# Altium footprint library Library.PcbLib: 22 footprints (part 1 of 2)
Each footprint in its own frame and in the unit in brackets; x right, y up, seen from the top. Pads: shape width x height; smd on the part's side, far side on the other; paste and mask are expansions set on the pad; w line width, h text height; cw(c..) or ccw(c..) is an arc to the next point about the centre after c.
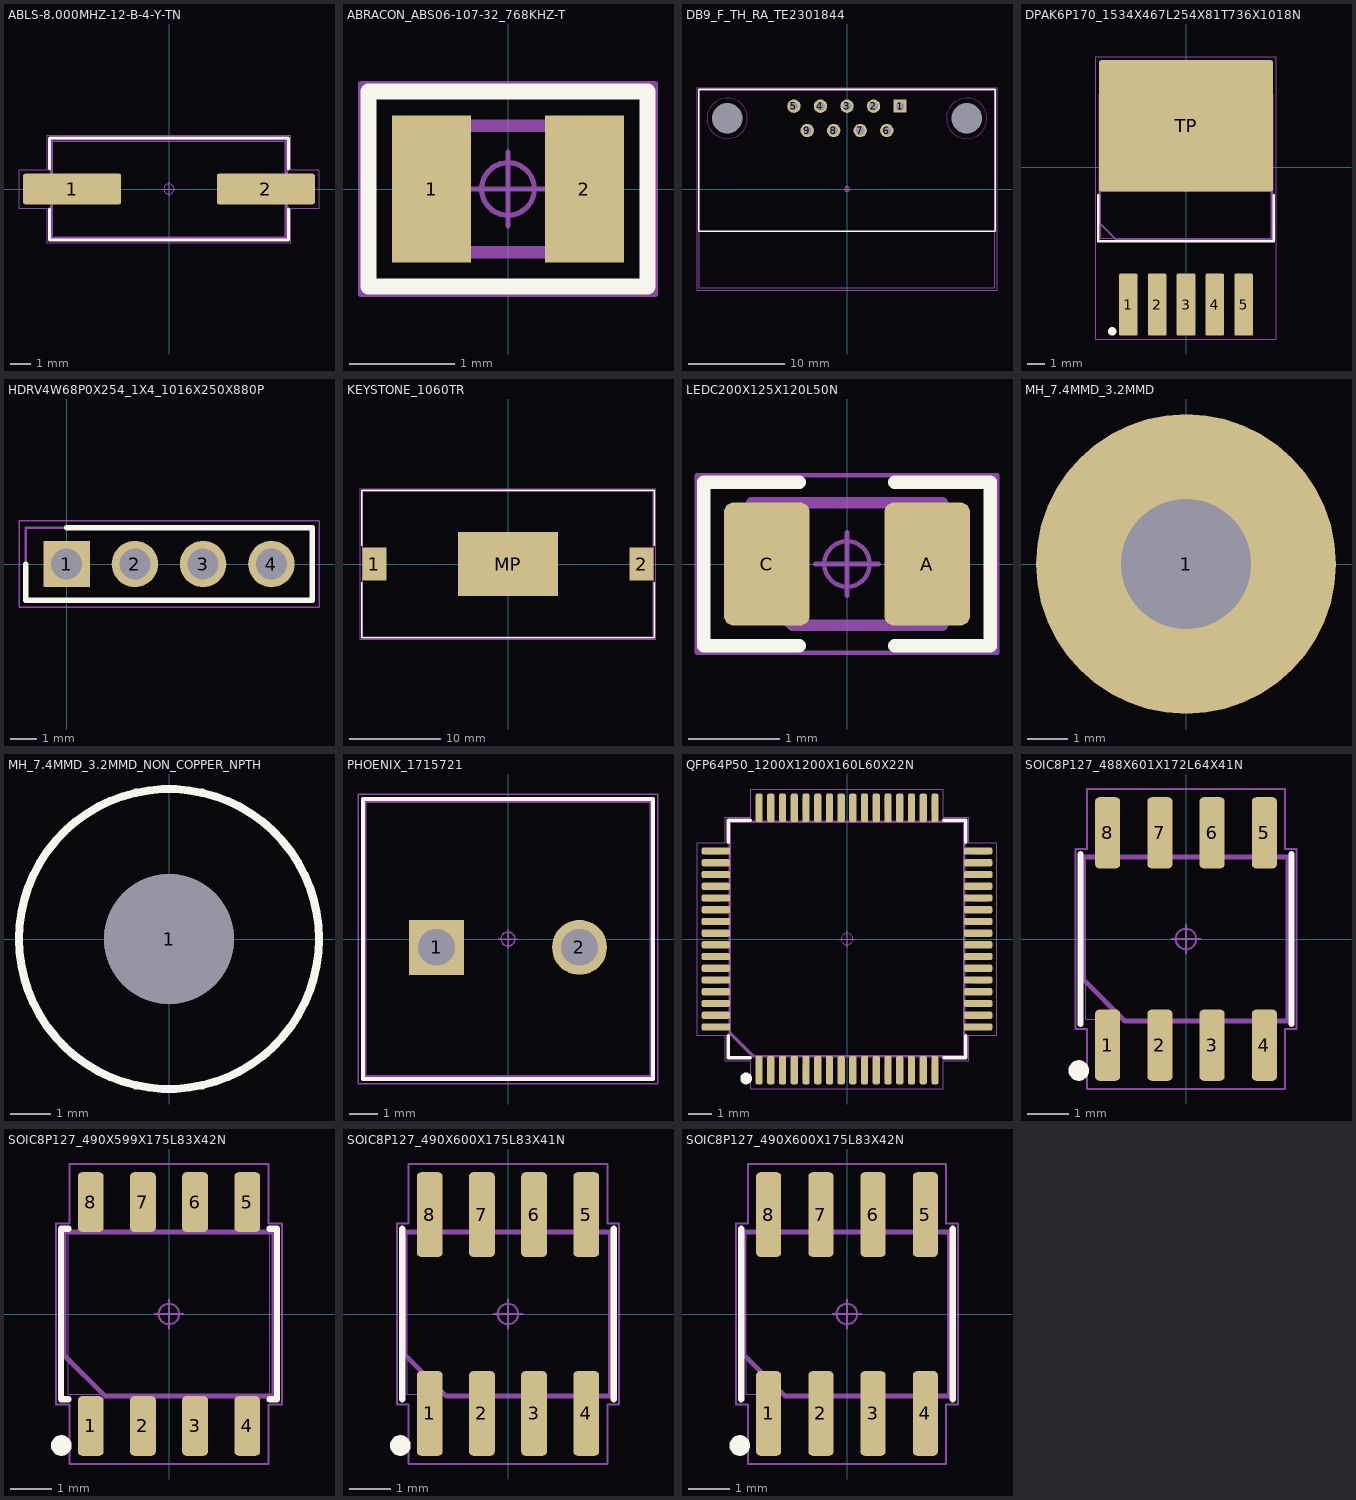
[diagram p0: the footprints below, top view; thin cyan lines are the x and y axes]

## ABLS-8.000MHZ-12-B-4-Y-TN [mm] "SMD Crystal; 11.40 mm L X 4.70 mm W X 4.30 mm H body"
height 4.3
pads (2):
  rrect13% 4.81x1.5 smd: 1(-4.745,0) 2(4.745,0)
Top Overlay:
  lines w0.15: -5.85,-0.975 -5.85,-2.5 5.85,-2.5 5.85,-0.975 ; -5.85,0.975 -5.85,2.5 5.85,2.5 5.85,0.975
Mechanical 9:
  lines w0.12: -5.775,-2.425 5.775,-2.425 5.775,2.425 -5.775,2.425 -5.775,-2.425
  text ".Designator" at -4.511,-0.453 h2
Mechanical 11:
  text ".Designator" at -2.704,-0.271 h1.2
Mechanical 15:
  lines w0.05: -7.35,-0.95 -5.975,-0.95 -5.975,-2.625 5.975,-2.625 5.975,-0.95 7.35,-0.95 7.35,0.95 5.975,0.95 5.975,2.625 -5.975,2.625 -5.975,0.95 -7.35,0.95 -7.35,-0.95
Mechanical 17:
  circle w0.05: c0,0 r0.25
  lines w0.05: -0.35,0 0.35,0 ; 0,-0.35 0,0.35
Mechanical 21:
  lines w0.025: -6.35,-0.3 -6.35,0.3 -2.45,0.3 -2.45,-0.3 -6.35,-0.3 ; -5.7,-2.35 5.7,-2.35 5.7,2.35 -5.7,2.35 -5.7,-2.35 ; 2.45,-0.3 6.35,-0.3 6.35,0.3 2.45,0.3 2.45,-0.3
3D body "ABLS-8.000MHz-12-B-4-Y-T.STEP": height 4.21, standoff 0.01, extent -6.35,-2.35 6.35,2.35

## ABRACON_ABS06-107-32_768KHZ-T [mm] "Crystals; 2 pin, 2.00 mm L X 1.20 mm W X 0.60 mm H body"
height 0.6
pads (2):
  rect 0.75x1.4 smd: 1(-0.725,0) 2(0.725,0)
Top Overlay:
  lines w0.15: -1.325,-0.925 -1.325,0.925 1.325,0.925 1.325,-0.925 -1.325,-0.925
Mechanical 9:
  lines w0.12: -1,-0.6 -1,0.6 1,0.6 1,-0.6 -1,-0.6
  text ".Designator" at -1.621,-0.163 h0.72
Mechanical 11:
  text ".Designator" at -2.704,-0.271 h1.2
Mechanical 15:
  lines w0.05: -1.4,-1 1.4,-1 1.4,1 -1.4,1 -1.4,-1
Mechanical 17:
  circle w0.05: c0,0 r0.25
  lines w0.05: -0.35,0 0.35,0 ; 0,-0.35 0,0.35
Mechanical 21:
  lines w0.025: -1,-0.6 -1,0.6 1,0.6 1,-0.6 -1,-0.6
3D body "ABS06-107-32.768KHZ-T.STEP": height 0.61, standoff 0.01, extent -1,-0.6 1,0.6

## DB9_F_TH_RA_TE2301844 [mm] "Connectors, Interconnects / D-Sub, D-Shaped Connectors / D-Sub Connector / TE Connectivity 2301844-1; 9 pin, 30.81 mm L X 20.65 mm W X 13.575 mm H body; 9 pin, 30.81 mm L X 20.65 mm W X 13.575 mm H body"
height 13.575
pads (11):
  rect 1.35x1.35 / inner round 1.35 / far side rect 1.35x1.35 hole 0.9 paste-2539.97: 1(5.54,8.645)
  round 1.4 hole 0.9 paste-2539.97: 2(2.77,8.645) 3(0,8.645) 4(-2.77,8.645) 5(-5.54,8.645) 6(4.15,6.105) 7(1.38,6.105) 8(-1.39,6.105) 9(-4.16,6.105)
  round 1 hole 3.2 unplated paste-2539.97 mask+1.1: MH1(-12.495,7.375) MH2(12.495,7.375)
Top Overlay:
  lines w0.15: -15.48,-4.4 15.48,-4.4 15.48,10.4 -15.48,10.4 -15.48,-4.4
Keep-Out Layer:
  circle w0.025: c-12.495,7.375 r2.11
  circle w0.025: c12.495,7.375 r2.11
Mechanical 9:
  lines w0.12: -15.405,-10.325 -15.405,10.325 15.405,10.325 15.405,-10.325 -15.405,-10.325
  text ".Designator" at -4.511,-0.453 h2
Mechanical 11:
  text ".Designator" at -2.704,-0.271 h1.2
Mechanical 15:
  lines w0.05: -15.655,-10.575 15.655,-10.575 15.655,10.575 -15.655,10.575 -15.655,-10.575
Mechanical 17:
  circle w0.05: c0,0 r0.25
  lines w0.05: -0.35,0 0.35,0 ; 0,-0.35 0,0.35
Mechanical 21:
  lines w0.025: -15.405,-10.325 -15.405,10.325 15.405,10.325 15.405,-10.325 -15.405,-10.325
3D body "c-2301844-1-b-3d.stp": height 13.59, standoff -3.99, extent -15.405,-10.325 15.405,10.325

## DPAK6P170_1534X467L254X81T736X1018N [mm] "DPAK, 1.70 mm pitch; 6 pin, 8.40 mm L X 10.03 mm W X 4.67 mm H body"
height 4.67
pads (6):
  rrect18% 1.11x3.66 smd: 1(-3.4,-8.098) 2(-1.7,-8.098) 3(0,-8.098) 4(1.7,-8.098) 5(3.4,-8.098)
  rrect3% 10.24x7.74 smd: TP(0,2.44)
Top Overlay:
  circle w0.25: c-4.355,-9.678 r0.125
  lines w0.15: -5.165,-1.655 -5.165,-4.375 5.165,-4.375 5.165,-1.655
Mechanical 9:
  lines w0.12: -5.09,-3.3 -4.09,-4.3 5.09,-4.3 5.09,4.3 -5.09,4.3 -5.09,-3.3
  text ".Designator" at -4.511,-0.453 h2
Mechanical 11:
  text ".Designator" at -2.704,-0.271 h1.2
Mechanical 15:
  lines w0.05: -5.32,-10.128 -5.32,6.51 5.32,6.51 5.32,-10.128 -5.32,-10.128
Mechanical 17:
  circle w0.05: c0,0 r0.25
  lines w0.05: -0.35,0 0.35,0 ; 0,-0.35 0,0.35
Mechanical 21:
  lines w0.025: -5.09,-1.4 5.09,-1.4 5.09,5.96 -5.09,5.96 -5.09,-1.4 ; -5.015,-4.2 -5.015,4.2 5.015,4.2 5.015,-4.2 -5.015,-4.2 ; -3.805,-9.48 -2.995,-9.48 -2.995,-6.94 -3.805,-6.94 -3.805,-9.48 ; -2.105,-9.48 -1.295,-9.48 -1.295,-6.94 -2.105,-6.94 -2.105,-9.48 ; -0.405,-9.48 0.405,-9.48 0.405,-6.94 -0.405,-6.94 -0.405,-9.48 ; 1.295,-9.48 2.105,-9.48 2.105,-6.94 1.295,-6.94 1.295,-9.48 ; 2.995,-9.48 3.805,-9.48 3.805,-6.94 2.995,-6.94 2.995,-9.48
3D body "LM2575HVS-3.3_NOPB.stp": height 4.66, standoff -0.14, extent -5.08,-8.975 5.08,5.376

## HDRV4W68P0X254_1X4_1016X250X880P [mm]
pads (4):
  rect 1.725x1.725 hole 1.15: 1(0,0)
  round 1.725 hole 1.15: 2(2.54,0) 3(5.08,0) 4(7.62,0)
Top Overlay:
  lines w0.2: -1.52,0 -1.52,-1.35 9.14,-1.35 9.14,1.35 0,1.35
Mechanical 13:
  lines w0.1: -1.52,-1.35 -1.52,1.35 9.14,1.35 9.14,-1.35 -1.52,-1.35
Mechanical 15:
  lines w0.05: -1.77,-1.6 -1.77,1.6 9.39,1.6 9.39,-1.6 -1.77,-1.6
3D body "826646-4.stp": height 8.66, standoff -3.14, extent -1.27,-1.25 8.89,1.25

## KEYSTONE_1060TR [mm] "Battery / Battery Holders, Clips, Contacts / Keystone 1060TR; 3 pin, 31.90 mm L X 16.00 mm W X 5.51 mm H body"
height 5.51
pads (3):
  rect 2.59x3.61 smd: 1(-14.655,0) 2(14.655,0)
  rect 11x7.01 smd: MP(0,0)
Top Overlay:
  lines w0.15: -16.025,-2.03 -16.025,-8.075 16.025,-8.075 16.025,-2.03 ; -16.025,2.03 -16.025,8.075 16.025,8.075 16.025,2.03
Mechanical 9:
  lines w0.12: -15.95,-8 -15.95,8 15.95,8 15.95,-8 -15.95,-8
  text ".Designator" at -4.511,-0.453 h2
Mechanical 11:
  text ".Designator" at -2.704,-0.271 h1.2
Mechanical 15:
  lines w0.05: -16.2,-8.25 16.2,-8.25 16.2,8.25 -16.2,8.25 -16.2,-8.25
Mechanical 17:
  circle w0.05: c0,0 r0.25
  lines w0.05: -0.35,0 0.35,0 ; 0,-0.35 0,0.35
Mechanical 21:
  lines w0.025: -15.95,-8 -15.95,8 15.95,8 15.95,-8 -15.95,-8
3D body "1060TR.STEP": height 5.52, standoff 0.01, extent -15.951,-8.001 15.951,8.001

## LCD [mm]
3D body "1602A_I2C_LCD Module.stp": height 18.51, standoff 0.01, extent -40.05,-18.06 39.95,17.94

## LEDC200X125X120L50N [mm] "LED, Chip; 2.00 mm L X 1.25 mm W X 1.20 mm H body"
height 1.2
pads (2):
  rrect21% 0.94x1.35 smd: A(0.882,0) C(-0.882,0)
Top Overlay:
  lines w0.15: -0.525,-0.9 -1.575,-0.9 -1.575,0.9 -0.525,0.9 ; 0.525,-0.9 1.575,-0.9 1.575,0.9 0.525,0.9
Mechanical 9:
  lines w0.12: -1.05,-0.225 -1.05,0.675 1.05,0.675 1.05,-0.675 -0.6,-0.675 -1.05,-0.225
  text ".Designator" at -1.961,-0.197 h0.87
Mechanical 11:
  text ".Designator" at -2.704,-0.271 h1.2
Mechanical 15:
  lines w0.05: -1.65,-0.975 -1.65,0.975 1.65,0.975 1.65,-0.975 -1.65,-0.975
Mechanical 17:
  circle w0.05: c0,0 r0.25
  lines w0.05: -0.35,0 0.35,0 ; 0,-0.35 0,0.35
Mechanical 21:
  lines w0.025: -1,-0.625 -0.5,-0.625 -0.5,0.625 -1,0.625 ; -1,-0.625 -1,0.625 ; -1,-0.625 -1,0.625 ; -1,-0.625 1,-0.625 ; -1,0.625 1,0.625 ; 1,-0.625 1,0.625 ; 1,-0.625 0.5,-0.625 0.5,0.625 1,0.625 ; 1,-0.625 1,0.625
3D body "LTST-C170GKT.stp": height 1.21, standoff 0.01, extent -1,-0.625 1,0.625

## MH_7.4MMD_3.2MMD [mm]
pads (1):
  round 7.4 hole 3.2: 1(0,0)

## MH_7.4MMD_3.2MMD_NON_COPPER_NPTH [mm]
pads (1):
  round 3.2 hole 3.2 unplated: 1(0,0)
Top Overlay:
  circle w0.2: c0,0 r3.7

## PHOENIX_1715721 [mm] "Connectors, Interconnects / Terminal Blocks / Wire to Board / Phoenix Contact 1715721; 2 pin, 10.00 mm L X 9.80 mm W X 13.80 mm H body"
height 13.8
pads (2):
  rect 1.95x1.95 / inner round 1.95 / far side rect 1.95x1.95 hole 1.3 paste-2539.97: 1(-2.54,-0.3)
  round 1.95 hole 1.3 paste-2539.97: 2(2.54,-0.3)
Top Overlay:
  lines w0.15: -5.155,-4.975 -5.155,4.975 5.155,4.975 5.155,-4.975 -5.155,-4.975
Mechanical 9:
  lines w0.12: -5.08,-4.9 5.08,-4.9 5.08,4.9 -5.08,4.9 -5.08,-4.9
  text ".Designator" at 0,0 h2
Mechanical 11:
  text ".Designator" at 0,0 h1.2
Mechanical 15:
  lines w0.05: -5.33,-5.15 -5.33,5.15 5.33,5.15 5.33,-5.15 -5.33,-5.15
Mechanical 17:
  circle w0.05: c0,0 r0.25
  lines w0.05: -0.35,0 0.35,0 ; 0,-0.35 0,0.35
Mechanical 21:
  lines w0.025: -5.08,-4.9 5.08,-4.9 5.08,4.9 -5.08,4.9 -5.08,-4.9
3D body "1715721.stp": height 14.21, standoff -3.49, extent -5.67,-4.95 5.06,4.88

## QFP64P50_1200X1200X160L60X22N [mm] "Quad Flat Pack (QFP), 0.50 mm pitch; 64 pin, square, 16 pin X 16 pin, 10.00 mm L X 10.00 mm W X 1.60 mm H body"
height 1.6
pads (64):
  rrect52% 0.31x1.21 smd: 1(-3.75,-5.595) 2(-3.25,-5.595) 3(-2.75,-5.595) 4(-2.25,-5.595) 5(-1.75,-5.595) 6(-1.25,-5.595) 7(-0.75,-5.595) 8(-0.25,-5.595) 9(0.25,-5.595) 10(0.75,-5.595) 11(1.25,-5.595) 12(1.75,-5.595) 13(2.25,-5.595) 14(2.75,-5.595) 15(3.25,-5.595) 16(3.75,-5.595) 33(3.75,5.595) 34(3.25,5.595) 35(2.75,5.595) 36(2.25,5.595) 37(1.75,5.595) 38(1.25,5.595) 39(0.75,5.595) 40(0.25,5.595) 41(-0.25,5.595) 42(-0.75,5.595) 43(-1.25,5.595) 44(-1.75,5.595) 45(-2.25,5.595) 46(-2.75,5.595) 47(-3.25,5.595) 48(-3.75,5.595)
  rrect52% 1.21x0.31 smd: 17(5.595,-3.75) 18(5.595,-3.25) 19(5.595,-2.75) 20(5.595,-2.25) 21(5.595,-1.75) 22(5.595,-1.25) 23(5.595,-0.75) 24(5.595,-0.25) 25(5.595,0.25) 26(5.595,0.75) 27(5.595,1.25) 28(5.595,1.75) 29(5.595,2.25) 30(5.595,2.75) 31(5.595,3.25) 32(5.595,3.75) 49(-5.595,3.75) 50(-5.595,3.25) 51(-5.595,2.75) 52(-5.595,2.25) 53(-5.595,1.75) 54(-5.595,1.25) 55(-5.595,0.75) 56(-5.595,0.25) 57(-5.595,-0.25) 58(-5.595,-0.75) 59(-5.595,-1.25) 60(-5.595,-1.75) 61(-5.595,-2.25) 62(-5.595,-2.75) 63(-5.595,-3.25) 64(-5.595,-3.75)
Top Overlay:
  circle w0.25: c-4.305,-5.95 r0.125
  lines w0.15: -5.075,-4.13 -5.075,-5.075 -4.13,-5.075 ; -5.075,4.13 -5.075,5.075 -4.13,5.075 ; 4.13,-5.075 5.075,-5.075 5.075,-4.13 ; 4.13,5.075 5.075,5.075 5.075,4.13
Mechanical 9:
  lines w0.12: -5,-4 -4,-5 5,-5 5,5 -5,5 -5,-4
  text ".Designator" at -4.511,-0.453 h2
Mechanical 11:
  text ".Designator" at -2.704,-0.271 h1.2
Mechanical 15:
  lines w0.05: -6.4,-4.105 -6.4,4.105 -5.2,4.105 -5.2,5.2 -4.105,5.2 -4.105,6.4 4.105,6.4 4.105,5.2 5.2,5.2 5.2,4.105 6.4,4.105 6.4,-4.105 5.2,-4.105 5.2,-5.2 4.105,-5.2 4.105,-6.4 -4.105,-6.4 -4.105,-5.2 -5.2,-5.2 -5.2,-4.105 -6.4,-4.105
Mechanical 17:
  circle w0.05: c0,0 r0.25
  lines w0.05: -0.35,0 0.35,0 ; 0,-0.35 0,0.35
Mechanical 21:
  drawing of 260 lines, arcs and shapes, not listed
3D body "STM32H503RBT6.step": height 1.6, standoff 0, extent -6.018,-6 5.982,6

## SOIC8P127_488X601X172L64X41N [mm] "Small Outline IC (SOIC), 1.27 mm pitch; 8 pin, 4.889 mm L X 3.899 mm W X 1.727 mm H body"
height 1.727
pads (8):
  rrect33% 0.61x1.73 smd: 1(-1.905,-2.584) 2(-0.635,-2.584) 3(0.635,-2.584) 4(1.905,-2.584) 5(1.905,2.584) 6(0.635,2.584) 7(-0.635,2.584) 8(-1.905,2.584)
Top Overlay:
  circle w0.25: c-2.61,-3.199 r0.125
  lines w0.15: -2.564,-2.069 -2.564,2.069 ; 2.564,-2.069 2.564,2.069
Mechanical 9:
  lines w0.12: -2.489,-0.994 -1.489,-1.994 2.489,-1.994 2.489,1.994 -2.489,1.994 -2.489,-0.994
  text ".Designator" at -4.511,-0.453 h2
Mechanical 11:
  text ".Designator" at -2.704,-0.271 h1.2
Mechanical 15:
  lines w0.05: -2.689,-2.194 -2.689,2.194 -2.41,2.194 -2.41,3.649 2.41,3.649 2.41,2.194 2.689,2.194 2.689,-2.194 2.41,-2.194 2.41,-3.649 -2.41,-3.649 -2.41,-2.194 -2.689,-2.194
Mechanical 17:
  circle w0.05: c0,0 r0.25
  lines w0.05: -0.35,0 0.35,0 ; 0,-0.35 0,0.35
Mechanical 21:
  lines w0.025: -2.445,-1.95 -2.445,1.95 2.445,1.95 2.445,-1.95 -2.445,-1.95 ; -2.114,-3.01 -1.696,-3.01 -1.696,-2.362 -2.114,-2.362 -2.114,-3.01 ; -2.114,2.362 -1.696,2.362 -1.696,3.01 -2.114,3.01 -2.114,2.362 ; -0.844,-3.01 -0.426,-3.01 -0.426,-2.362 -0.844,-2.362 -0.844,-3.01 ; -0.844,2.362 -0.426,2.362 -0.426,3.01 -0.844,3.01 -0.844,2.362 ; 0.426,-3.01 0.844,-3.01 0.844,-2.362 0.426,-2.362 0.426,-3.01 ; 0.426,2.362 0.844,2.362 0.844,3.01 0.426,3.01 0.426,2.362 ; 1.696,-3.01 2.114,-3.01 2.114,-2.362 1.696,-2.362 1.696,-3.01 ; 1.696,2.362 2.114,2.362 2.114,3.01 1.696,3.01 1.696,2.362
3D body "FM24CL64B-GTR.step": height 1.73, standoff 0, extent -2.445,-3.01 2.445,3.01

## SOIC8P127_490X599X175L83X42N [mm] "Small Outline IC (SOIC), 1.27 mm pitch; 8 pin, 4.905 mm L X 3.90 mm W X 1.752 mm H body"
height 1.752
pads (8):
  rrect32% 0.63x1.45 smd: 1(-1.905,-2.725) 2(-0.635,-2.725) 3(0.635,-2.725) 4(1.905,-2.725) 5(1.905,2.725) 6(0.635,2.725) 7(-0.635,2.725) 8(-1.905,2.725)
Top Overlay:
  circle w0.25: c-2.62,-3.2 r0.125
  lines w0.15: -2.445,-2.075 -2.63,-2.075 -2.63,2.075 -2.445,2.075 ; 2.445,-2.075 2.63,-2.075 2.63,2.075 2.445,2.075
Mechanical 9:
  lines w0.12: -2.555,-1 -1.555,-2 2.555,-2 2.555,2 -2.555,2 -2.555,-1
  text ".Designator" at -4.511,-0.453 h2
Mechanical 11:
  text ".Designator" at -2.704,-0.271 h1.2
Mechanical 15:
  lines w0.05: -2.755,-2.2 -2.755,2.2 -2.42,2.2 -2.42,3.65 2.42,3.65 2.42,2.2 2.755,2.2 2.755,-2.2 2.42,-2.2 2.42,-3.65 -2.42,-3.65 -2.42,-2.2 -2.755,-2.2
Mechanical 17:
  circle w0.05: c0,0 r0.25
  lines w0.05: -0.35,0 0.35,0 ; 0,-0.35 0,0.35
Mechanical 21:
  lines w0.025: -2.452,-1.95 -2.452,1.95 2.452,1.95 2.452,-1.95 -2.452,-1.95 ; -2.115,-2.997 -1.695,-2.997 -1.695,-2.163 -2.115,-2.163 -2.115,-2.997 ; -2.115,2.163 -1.695,2.163 -1.695,2.997 -2.115,2.997 -2.115,2.163 ; -0.845,-2.997 -0.425,-2.997 -0.425,-2.163 -0.845,-2.163 -0.845,-2.997 ; -0.845,2.163 -0.425,2.163 -0.425,2.997 -0.845,2.997 -0.845,2.163 ; 0.425,-2.997 0.845,-2.997 0.845,-2.163 0.425,-2.163 0.425,-2.997 ; 0.425,2.163 0.845,2.163 0.845,2.997 0.425,2.997 0.425,2.163 ; 1.695,-2.997 2.115,-2.997 2.115,-2.163 1.695,-2.163 1.695,-2.997 ; 1.695,2.163 2.115,2.163 2.115,2.997 1.695,2.997 1.695,2.163
3D body "U_SO8_NXP.step": height 1.76, standoff 0, extent -2.54,-3.099 2.54,3.099

## SOIC8P127_490X600X175L83X41N [mm] "Small Outline IC (SOIC), 1.27 mm pitch; 8 pin, 4.90 mm L X 3.90 mm W X 1.75 mm H body"
height 1.75
pads (8):
  rrect32% 0.63x2.06 smd: 1(-1.905,-2.42) 2(-0.635,-2.42) 3(0.635,-2.42) 4(1.905,-2.42) 5(1.905,2.42) 6(0.635,2.42) 7(-0.635,2.42) 8(-1.905,2.42)
Top Overlay:
  circle w0.25: c-2.62,-3.2 r0.125
  lines w0.15: -2.575,-2.075 -2.575,2.075 ; 2.575,-2.075 2.575,2.075
Mechanical 9:
  lines w0.12: -2.5,-1 -2.5,2 2.5,2 2.5,-2 -1.5,-2 -2.5,-1
  text ".Designator" at -4.511,-0.453 h2
Mechanical 11:
  text ".Designator" at -2.704,-0.271 h1.2
Mechanical 15:
  lines w0.05: -2.7,-2.2 -2.42,-2.2 -2.42,-3.65 2.42,-3.65 2.42,-2.2 2.7,-2.2 2.7,2.2 2.42,2.2 2.42,3.65 -2.42,3.65 -2.42,2.2 -2.7,2.2 -2.7,-2.2
Mechanical 17:
  circle w0.05: c0,0 r0.25
  lines w0.05: -0.35,0 0.35,0 ; 0,-0.35 0,0.35
Mechanical 21:
  lines w0.025: -2.45,-1.95 2.45,-1.95 2.45,1.95 -2.45,1.95 -2.45,-1.95 ; -2.11,-3 -2.11,-2.165 -1.7,-2.165 -1.7,-3 -2.11,-3 ; -2.11,2.165 -2.11,3 -1.7,3 -1.7,2.165 -2.11,2.165 ; -0.84,-3 -0.84,-2.165 -0.43,-2.165 -0.43,-3 -0.84,-3 ; -0.84,2.165 -0.84,3 -0.43,3 -0.43,2.165 -0.84,2.165 ; 0.43,-3 0.43,-2.165 0.84,-2.165 0.84,-3 0.43,-3 ; 0.43,2.165 0.43,3 0.84,3 0.84,2.165 0.43,2.165 ; 1.7,-3 1.7,-2.164 2.11,-2.164 2.11,-3 1.7,-3 ; 1.7,2.164 1.7,3 2.11,3 2.11,2.164 1.7,2.164
3D body "BQ32000DR.stp": height 1.63, standoff 0, extent -2.451,-3.011 2.451,3.011

## SOIC8P127_490X600X175L83X42N [mm] "Small Outline IC (SOIC), 1.27 mm pitch; 8 pin, 4.90 mm L X 3.90 mm W X 1.75 mm H body"
height 1.75
pads (8):
  rrect33% 0.61x2.06 smd: 1(-1.905,-2.42) 2(-0.635,-2.42) 3(0.635,-2.42) 4(1.905,-2.42) 5(1.905,2.42) 6(0.635,2.42) 7(-0.635,2.42) 8(-1.905,2.42)
Top Overlay:
  circle w0.25: c-2.61,-3.2 r0.125
  lines w0.15: -2.575,-2.075 -2.575,2.075 ; 2.575,-2.075 2.575,2.075
Mechanical 9:
  lines w0.12: -2.5,-1 -2.5,2 2.5,2 2.5,-2 -1.5,-2 -2.5,-1
  text ".Designator" at -4.511,-0.453 h2
Mechanical 11:
  text ".Designator" at -2.704,-0.271 h1.2
Mechanical 15:
  lines w0.05: -2.7,-2.2 -2.41,-2.2 -2.41,-3.65 2.41,-3.65 2.41,-2.2 2.7,-2.2 2.7,2.2 2.41,2.2 2.41,3.65 -2.41,3.65 -2.41,2.2 -2.7,2.2 -2.7,-2.2
Mechanical 17:
  circle w0.05: c0,0 r0.25
  lines w0.05: -0.35,0 0.35,0 ; 0,-0.35 0,0.35
Mechanical 21:
  lines w0.025: -2.45,-1.95 2.45,-1.95 2.45,1.95 -2.45,1.95 -2.45,-1.95 ; -2.115,-3 -2.115,-2.165 -1.695,-2.165 -1.695,-3 -2.115,-3 ; -2.115,2.165 -2.115,3 -1.695,3 -1.695,2.165 -2.115,2.165 ; -0.845,-3 -0.845,-2.165 -0.425,-2.165 -0.425,-3 -0.845,-3 ; -0.845,2.165 -0.845,3 -0.425,3 -0.425,2.165 -0.845,2.165 ; 0.425,-3 0.425,-2.165 0.845,-2.165 0.845,-3 0.425,-3 ; 0.425,2.165 0.425,3 0.845,3 0.845,2.165 0.425,2.165 ; 1.695,-3 1.695,-2.164 2.115,-2.164 2.115,-3 1.695,-3 ; 1.695,2.164 1.695,3 2.115,3 2.115,2.164 1.695,2.164
3D body "DS3231MZ_TRL.step": height 1.75, standoff 0, extent -2.45,-3 2.45,3